# Altium footprint library PowerInductors.PCBLIB: 52 footprints (part 4 of 4)
Each footprint in its own frame and in the unit in brackets; x right, y up, seen from the top. Pads: shape width x height; smd on the part's side, far side on the other; paste and mask are expansions set on the pad; w line width, h text height; cw(c..) or ccw(c..) is an arc to the next point about the centre after c.
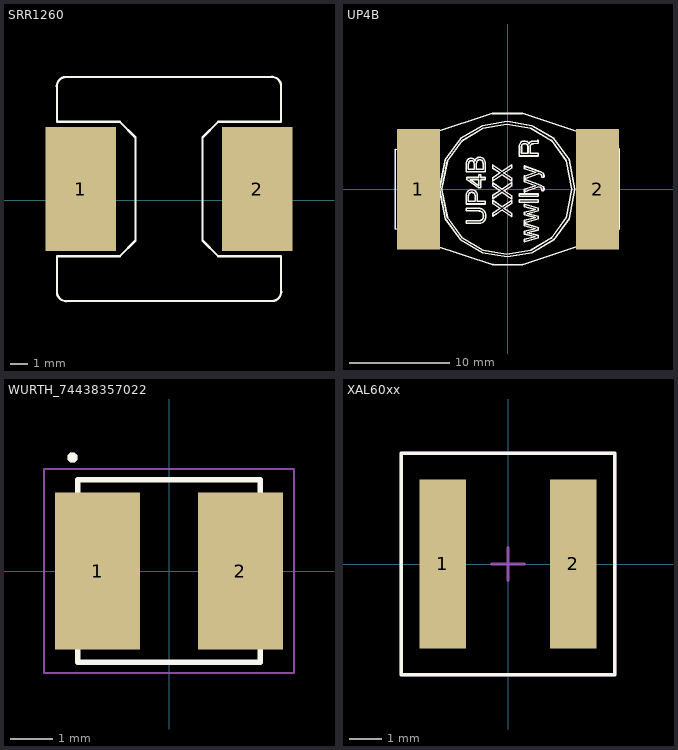
[diagram p3: the footprints below, top view; thin cyan lines are the x and y axes]

## SRR1260 [mm]
pads (2):
  rect 4x7 smd: 1(14.939,0.635) 2(24.939,0.635)
Top Overlay:
  lines w0.127: 13.589,-5.165 ccw(c14.116,-5.192) 14.189,-5.715 25.739,-5.715 ccw(c25.766,-5.188) 26.289,-5.115 26.289,-3.175 22.733,-3.175 21.839,-2.281 21.839,3.551 22.733,4.445 22.86,4.445 26.289,4.445 26.289,6.435 ccw(c25.762,6.462) 25.689,6.985 14.139,6.985 ccw(c14.112,6.458) 13.589,6.385 13.589,4.445 17.145,4.445 18.039,3.551 18.039,-2.281 17.145,-3.175 13.589,-3.175 13.589,-5.165
3D body "SRR1260A.STP": height 6.25, standoff 0, extent 13.689,-5.642 26.189,6.858

## UP4B [mm]
pads (2):
  rect 4.3x12 smd: 1(-8.9,0) 2(8.9,0)
Top Overlay:
  drawing of 408 lines, arcs and shapes, not listed

## WURTH_74438357022 [mm] "FIXED IND 2.2UH 5.2A 26 MOHM SMD-0.161\" L x 0.161\" W (4.10mm x 4.10mm)"
pads (2):
  rect 2x3.7 smd mask+0.05: 1(-1.685,0) 2(1.685,0)
Top Overlay:
  circle w0.13: c-2.276,2.674 r0.056
  lines w0.127: -2.15,-2.15 2.15,-2.15 2.15,2.15 -2.15,2.15 -2.15,-2.15
Mechanical 1:
  circle w0.13: c-2.275,2.675 r0.056
Mechanical 15:
  lines w0.05: -2.95,-2.4 2.95,-2.4 2.95,2.4 -2.95,2.4 -2.95,-2.4
3D body "Download_WE-MAPI-4030_stp (rev1).stp": height 3.1, standoff 0, extent -2.05,-2.05 2.05,2.05

## XAL60xx [mm]
pads (2):
  rect 1.43x5.24 smd: 1(-2.02,0) 2(2.02,0)
Top Overlay:
  lines w0.1: -3.302,-3.429 3.302,-3.429 3.302,3.429 -3.302,3.429 -3.302,-3.429
Mechanical 13:
  lines w0.1: -3.302,-3.429 3.302,-3.429 3.302,3.429 -3.302,3.429 -3.302,-3.429
Mechanical 15:
  lines w0.1: -0.5,0 0.5,0 ; 0,-0.5 0,0.5 ; -3.302,-3.429 3.302,-3.429 3.302,3.429 -3.302,3.429 -3.302,-3.429
3D body "Coilcraft-XAL6060-103.STEP": height 6, standoff -0.1, extent -3.258,-3.38 3.302,3.38